# Altium schematic symbol library CN_1P.SchLib: 1 symbol
Pins are listed as number, name and electrical type; pins without a type are passive.

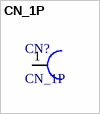
[diagram p0: symbol CN_1P]

## CN_1P
designator CN?
pins: 1